# EAGLE library part MOTOR (library Conector Lancha)
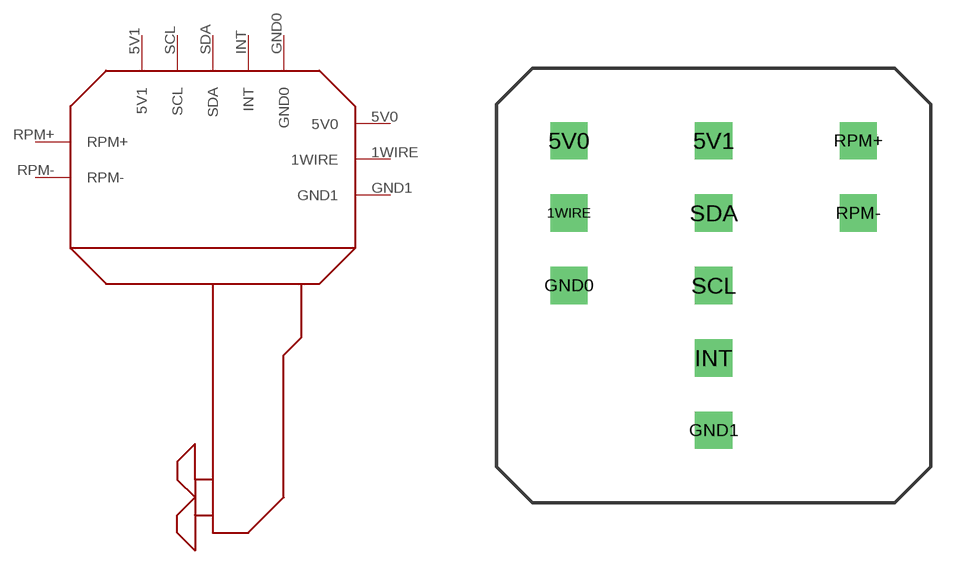
[diagram p1: symbol with the pads of MOTOR; footprint MOTOR]

Designator prefix -

## MOTOR  [MOTOR]
1WIRE  1WIRE
5V0  5V0
5V1  5V1
GND0  GND0
GND1  GND1
INT  INT
RPM+  RPM+
RPM-  RPM-
SCL  SCL
SDA  SDA

## Footprint MOTOR (pad centres in mm)
drill 0.8 square: 1WIRE -6.35,1.27; 5V0 -6.35,3.81; 5V1 -1.27,3.81; GND0 -6.35,-1.27; GND1 -1.27,-6.35; INT -1.27,-3.81; RPM+ 3.81,3.81; RPM- 3.81,1.27; SCL -1.27,-1.27; SDA -1.27,1.27